# Altium schematic symbol library LED_RED.SCHLIB: 1 symbol
Pins are listed as number, name and electrical type; pins without a type are passive.

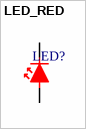
[diagram p0: symbol LED_RED]

## LED_RED
designator LED?
pins: 1 A, 2 C